# Altium schematic symbol library SCH-MCU-WCH-CH552P-QFN16-3X3.SchLib: 1 symbol
Pins are listed as number, name and electrical type; pins without a type are passive.

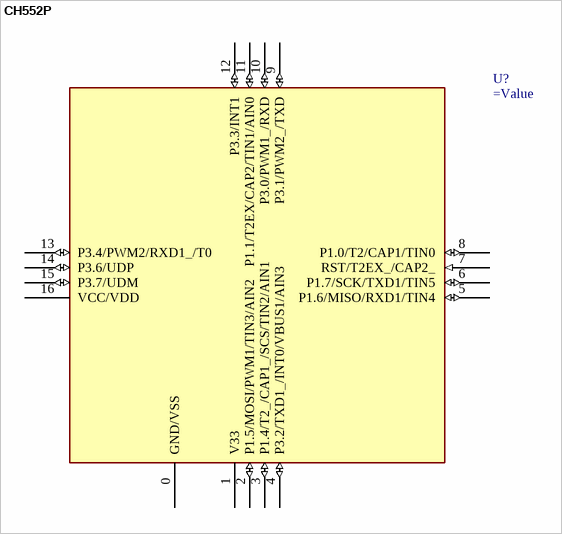
[diagram p0: symbol CH552P]

## CH552P
designator U?
pins: 0 GND/VSS (power), 1 V33 (power), 2 P1.5/MOSI/PWM1/TIN3/AIN2 (io), 3 P1.4/T2_/CAP1_/SCS/TIN2/AIN1 (io), 4 P3.2/TXD1_/INT0/VBUS1/AIN3 (io), 5 P1.6/MISO/RXD1/TIN4 (io), 6 P1.7/SCK/TXD1/TIN5 (io), 7 RST/T2EX_/CAP2_ (in), 8 P1.0/T2/CAP1/TIN0 (io), 9 P3.1/PWM2_/TXD (io), 10 P3.0/PWM1_/RXD (io), 11 P1.1/T2EX/CAP2/TIN1/AIN0 (io), 12 P3.3/INT1 (io), 13 P3.4/PWM2/RXD1_/T0 (io), 14 P3.6/UDP (io), 15 P3.7/UDM (io), 16 VCC/VDD (power)